# Altium footprint library USB_Connector.PcbLib: 1 footprints
Each footprint in its own frame and in the unit in brackets; x right, y up, seen from the top. Pads: shape width x height; smd on the part's side, far side on the other; paste and mask are expansions set on the pad; w line width, h text height; cw(c..) or ccw(c..) is an arc to the next point about the centre after c.
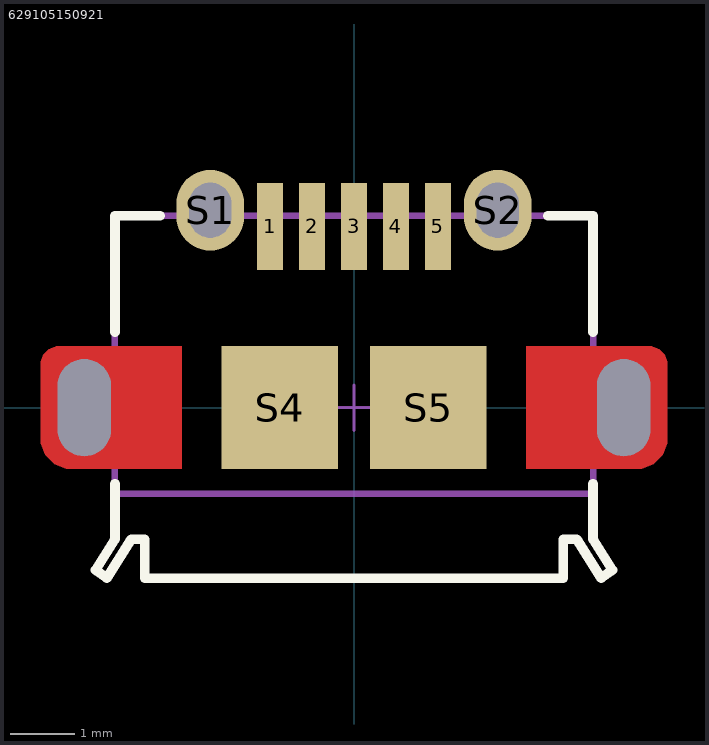
[diagram p0: the footprint, top view; thin cyan lines are the x and y axes]

## 629105150921 [mm]
pads (11):
  rect 0.4x1.35 smd: 1(-1.3,2.805) 2(-0.65,2.805) 3(0,2.805) 4(0.65,2.805) 5(1.3,2.805)
  oval 1.05x1.25 hole 0.65 slot 0.85 at 90 deg: S1(-2.225,3.055) S2(2.225,3.055)
  round 0 / inner round 0 / far side oval 1.4x2.1 hole 0.825 slot 1.5 at 90 deg: S3(-4.175,0) S6(4.175,0)
  rect 1.8x1.9 smd: S4(-1.15,0) S5(1.15,0)
Top Layer:
  region: -4.353,-0.95 -4.452,-0.95 -4.636,-0.874 -4.776,-0.733 -4.852,-0.549 -4.852,-0.45 -4.852,0.65 -4.852,0.71 -4.807,0.82 -4.722,0.904 -4.612,0.95 -4.553,0.95 -2.668,0.95 -2.668,-0.95
  region: 4.353,-0.95 4.452,-0.95 4.636,-0.874 4.776,-0.733 4.852,-0.549 4.852,-0.45 4.852,0.65 4.852,0.71 4.807,0.82 4.722,0.904 4.612,0.95 4.553,0.95 2.668,0.95 2.668,-0.95
Top Overlay:
  lines w0.15: -3.7,-1.18 -3.7,-2.04 -4,-2.515 -3.825,-2.64 -3.45,-2.04 -3.24,-2.04 -3.24,-2.64 3.24,-2.64 3.24,-2.04 3.45,-2.04 3.825,-2.64 4,-2.515 3.7,-2.04 3.7,-1.18 ; -3.7,1.17 -3.7,2.97 -3,2.97 ; 3,2.97 3.7,2.97 3.7,1.17
Mechanical 1:
  lines w0.1: -3.7,-1.33 3.7,-1.33
Mechanical 13:
  lines w0.1: -4,-2.515 -3.825,-2.64 -3.45,-2.04 -3.24,-2.04 -3.24,-2.64 3.24,-2.64 3.24,-2.04 3.45,-2.04 3.825,-2.64 4,-2.515 3.7,-2.04 3.7,2.97 -3.7,2.97 -3.7,-2.04 -4,-2.515
Mechanical 15:
  lines w0.05: -0.35,0 0.35,0 ; 0,-0.35 0,0.35
3D body "629105150921.stp": height 2.78, standoff -0.5, extent -4.3,-2.64 4.3,3.23